# EAGLE library part LM5002 (library Public)
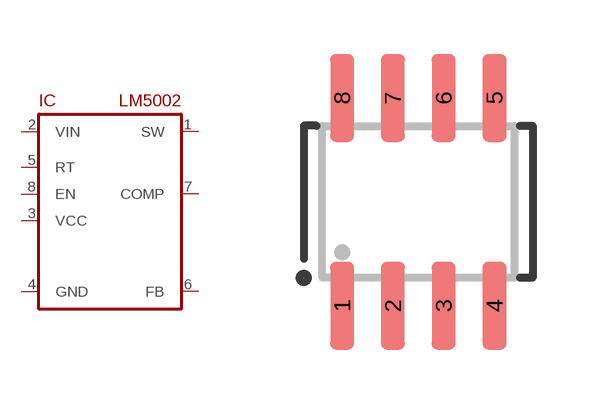
[diagram p202: symbol with the pads of SO8; footprint SO8]

Designator prefix IC

## LM5002  [SO8]
1  SW
2  VIN
3  VCC
4  GND
5  RT
6  FB
7  COMP
8  EN

## Footprint SO8 (pad centres in mm)
smd 0.6 x 2.2: 1 -1.905,-2.6; 2 -0.635,-2.6; 3 0.635,-2.6; 4 1.905,-2.6; 5 1.905,2.6; 6 0.635,2.6; 7 -0.635,2.6; 8 -1.905,2.6